# EAGLE library part TLV2472 (library amplifiers)
Rail-to-Rail I/O High Drive Dual Op Amp
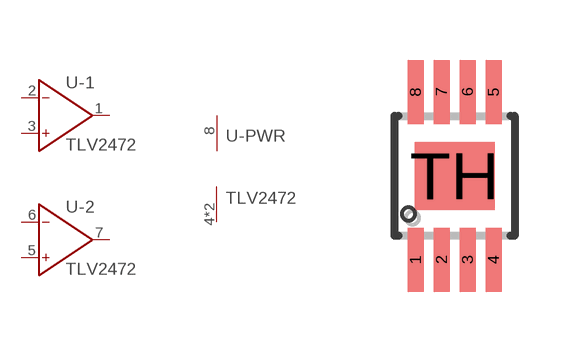
[diagram p7: symbol with the pads of R-PDSO-G8-PAD; footprint R-PDSO-G8-PAD]

Designator prefix U; gates -1=OPAMP -2=OPAMP -PWR=PWR+/-

## TLV2472 (MF: Texas Instruments; MPN: TLV2472IDGN; REVIEWED: NO; TESTED: NO)  [R-PDSO-G8-PAD]
1  -1:OUT  out
2  -1:IN-  in
3  -1:IN+  in
4  -PWR:V-  pwr
5  -2:IN+  in
6  -2:IN-  in
7  -2:OUT  out
8  -PWR:V+  pwr
TH  -PWR:V-  pwr

## Footprint R-PDSO-G8-PAD (pad centres in mm)
MSOP 8-pin with thermal pad
smd 0.4 x 1.6: 1 -0.975,-2.1; 2 -0.325,-2.1; 3 0.325,-2.1; 4 0.975,-2.1; 5 0.975,2.1; 6 0.325,2.1; 7 -0.325,2.1; 8 -0.975,2.1
smd 2 x 1.7: TH 0,0